# EAGLE library part 43650-0816 (library molex)
MICROFIT HEADER 8POS 3MM VERT GOLD
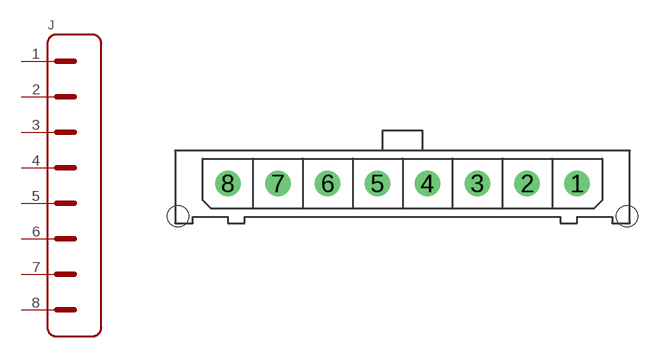
[diagram p1: symbol with the pads of 43650-0816; footprint 43650-0816]

Designator prefix J

## 43650-0816  [43650-0816]
1  1
2  2
3  3
4  4
5  5
6  6
7  7
8  8

## Footprint 43650-0816 (pad centres in mm)
drill 1.02: 1 10.5,0; 2 7.5,0; 3 4.5,0; 4 1.5,0; 5 -1.5,0; 6 -4.5,0; 7 -7.5,0; 8 -10.5,0
hole 1.27 at -13.5,-1.96
hole 1.27 at 13.5,-1.96